# Altium schematic symbol library 常用芯片.SchLib: 3 symbols
Pins are listed as number, name and electrical type; pins without a type are passive.

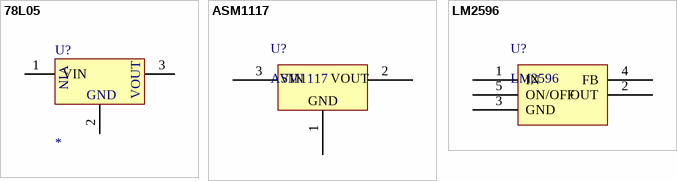
[diagram p0: symbols 78L05 to LM2596]

## 78L05
designator U?
3-Terminal Positive Voltage Regulator
footprint 78XX
simulation model 78L05 (SUBCKT)
pins: 1 VIN, 2 GND, 3 VOUT

## ASM1117
designator U?
pins: 1 GND, 2 VOUT, 3 VIN

## LM2596
designator U?
pins: 1 IN, 2 OUT, 3 GND, 4 FB, 5 ON/OFF